# Altium schematic symbol library kmilo17pet-LT_ChargePump.SchLib: 599 symbols (part 6 of 29)
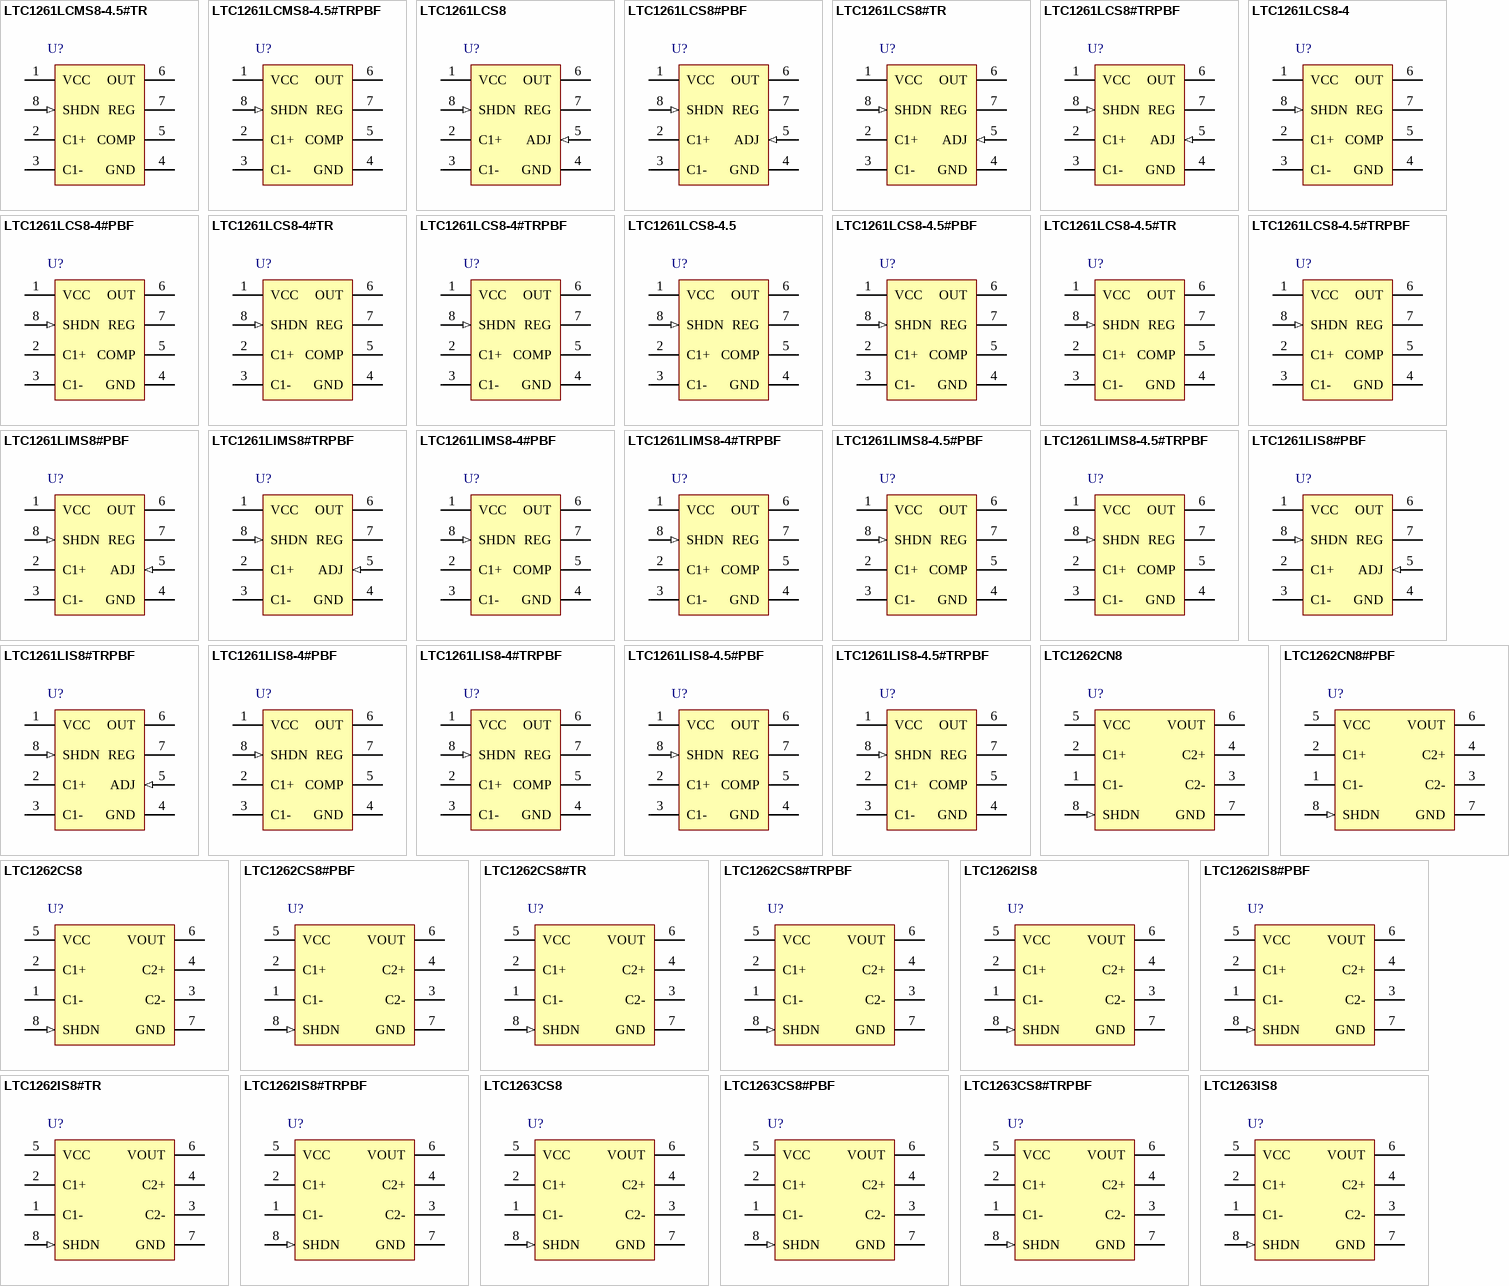
[diagram p21: symbols LTC1261LCMS8-4.5#TR to LTC1263IS8]

## LTC1261LIMS8-4#PBF
designator U?
Switched Capacitor Regulated Voltage Inverter, 4.35 to 5.25 V Vin, -4 V Vout, 8-pin SOP (MS8-8), -40 to 85 degC, Pb-Free; Manufacturer: Linear Technology; PartNumber: LTC1261LIMS8-4#PBF; Frequency(kHz): 650; Ishutdown(uA): 5; Isupply(mA): 0.65; Max Iout(mA): 20; Vin Max(V): 5.25; Vin Min(V): 4.35; Voutput: -4 V; DatasheetVersion: Rev. A; PackageVersion: Rev. G, 03/2012; PackageReference: MS8-8; PackageDescription: 8-Pin Plastic MSOP, Body 3 x 3 mm, Pitch 0.65 mm; Supplier 1: Digi-Key; Supplier Part Number 1: LTC1261LIMS8-4#PBF-ND; Supplier 2: Newark; Supplier Part Number 2: 45W8455; RoHS: TRUE; Mounting Technology: Surface Mount; ComponentLink1Description: Manufacturer URL; ComponentLink1URL: http://www.linear.com/; ComponentLink2Description: Datasheet; ComponentLink2URL: http://cds.linear.com/docs/en/datasheet/1261lfa.pdf; ComponentLink3Description: Package Specification; ComponentLink3URL: http://cds.linear.com/docs/en/packaging/05081660_G_MS8.pdf
footprint LT-MS8-8_N (SOP, 8-Leads, Body 3.1x3.1mm, Pitch 0.65mm, IPC Medium Density)
footprint LT-MS8-8_L (SOP, 8-Leads, Body 3.1x3.1mm, Pitch 0.65mm, IPC High Density)
footprint LT-MS8-8_M (SOP, 8-Leads, Body 3.1x3.1mm, Pitch 0.65mm, IPC Low Density)
pins: 1 VCC (power), 2 C1+ "C1 Positive Input. Connect a 0.1uF capacitor between C1+ and C1-.", 3 C1- "C1 Negative Input. Connect a 0.1uF capacitor from C1+ to C1-.", 4 GND (power) "Ground. Connect to a low impedance ground. A ground plane will help to minimize regulation errors.", 5 COMP "Output Adjust/Compensation Pin. For adjustable parts this pin is used to set the output voltage. The output voltage should be divided down with a resistor divider and feedback to this pin to set the regulated output voltage. (See Datasheet)", 6 OUT (power), 7 REG (oc) "This is an open drain output that pulls low when the output voltage is within 5% of the set value. It will sink 8mA to ground with a 5V supply. The external circuitry must provide a pull-up or REG will not swing high. The (See Datasheet)", 8 SHDN (in)

## LTC1261LIMS8-4#TRPBF
designator U?
Switched Capacitor Regulated Voltage Inverter, 4.35 to 5.25 V Vin, -4 V Vout, 8-pin SOP (MS8-8), -40 to 85 degC, Pb-Free, Tape and Reel; Manufacturer: Linear Technology; PartNumber: LTC1261LIMS8-4#TRPBF; Frequency(kHz): 650; Ishutdown(uA): 5; Isupply(mA): 0.65; Max Iout(mA): 20; Vin Max(V): 5.25; Vin Min(V): 4.35; Voutput: -4 V; DatasheetVersion: Rev. A; PackageVersion: Rev. G, 03/2012; PackageReference: MS8-8; PackageDescription: 8-Pin Plastic MSOP, Body 3 x 3 mm, Pitch 0.65 mm; Supplier 1: Digi-Key; Supplier Part Number 1: LTC1261LIMS8-4#TRPBF-ND; Supplier 2: Newark; Supplier Part Number 2: 45W8456; Packing: Tape and Reel; RoHS: TRUE; Mounting Technology: Surface Mount; ComponentLink1Description: Manufacturer URL; ComponentLink1URL: http://www.linear.com/; ComponentLink2Description: Datasheet; ComponentLink2URL: http://cds.linear.com/docs/en/datasheet/1261lfa.pdf; ComponentLink3Description: Package Specification; ComponentLink3URL: http://cds.linear.com/docs/en/packaging/05081660_G_MS8.pdf
footprint LT-MS8-8_N (SOP, 8-Leads, Body 3.1x3.1mm, Pitch 0.65mm, IPC Medium Density)
footprint LT-MS8-8_L (SOP, 8-Leads, Body 3.1x3.1mm, Pitch 0.65mm, IPC High Density)
footprint LT-MS8-8_M (SOP, 8-Leads, Body 3.1x3.1mm, Pitch 0.65mm, IPC Low Density)
pins: 1 VCC (power), 2 C1+ "C1 Positive Input. Connect a 0.1uF capacitor between C1+ and C1-.", 3 C1- "C1 Negative Input. Connect a 0.1uF capacitor from C1+ to C1-.", 4 GND (power) "Ground. Connect to a low impedance ground. A ground plane will help to minimize regulation errors.", 5 COMP "Output Adjust/Compensation Pin. For adjustable parts this pin is used to set the output voltage. The output voltage should be divided down with a resistor divider and feedback to this pin to set the regulated output voltage. (See Datasheet)", 6 OUT (power), 7 REG (oc) "This is an open drain output that pulls low when the output voltage is within 5% of the set value. It will sink 8mA to ground with a 5V supply. The external circuitry must provide a pull-up or REG will not swing high. The (See Datasheet)", 8 SHDN (in)

## LTC1261LIMS8-4.5#PBF
designator U?
Switched Capacitor Regulated Voltage Inverter, 4.75 to 5.25 V Vin, -4.5 V Vout, 8-pin SOP (MS8-8), -40 to 85 degC, Pb-Free; Manufacturer: Linear Technology; PartNumber: LTC1261LIMS8-4.5#PBF; Frequency(kHz): 650; Ishutdown(uA): 5; Isupply(mA): 0.65; Max Iout(mA): 20; Vin Max(V): 5.25; Vin Min(V): 4.75; Voutput: -4.5 V; DatasheetVersion: Rev. A; PackageVersion: Rev. G, 03/2012; PackageReference: MS8-8; PackageDescription: 8-Pin Plastic MSOP, Body 3 x 3 mm, Pitch 0.65 mm; Supplier 1: Digi-Key; Supplier Part Number 1: LTC1261LIMS8-4.5#PBF-ND; Supplier 2: Newark; Supplier Part Number 2: 45W8453; RoHS: TRUE; Mounting Technology: Surface Mount; ComponentLink1Description: Manufacturer URL; ComponentLink1URL: http://www.linear.com/; ComponentLink2Description: Datasheet; ComponentLink2URL: http://cds.linear.com/docs/en/datasheet/1261lfa.pdf; ComponentLink3Description: Package Specification; ComponentLink3URL: http://cds.linear.com/docs/en/packaging/05081660_G_MS8.pdf
footprint LT-MS8-8_N (SOP, 8-Leads, Body 3.1x3.1mm, Pitch 0.65mm, IPC Medium Density)
footprint LT-MS8-8_L (SOP, 8-Leads, Body 3.1x3.1mm, Pitch 0.65mm, IPC High Density)
footprint LT-MS8-8_M (SOP, 8-Leads, Body 3.1x3.1mm, Pitch 0.65mm, IPC Low Density)
pins: 1 VCC (power), 2 C1+ "C1 Positive Input. Connect a 0.1uF capacitor between C1+ and C1-.", 3 C1- "C1 Negative Input. Connect a 0.1uF capacitor from C1+ to C1-.", 4 GND (power) "Ground. Connect to a low impedance ground. A ground plane will help to minimize regulation errors.", 5 COMP "Output Adjust/Compensation Pin. For adjustable parts this pin is used to set the output voltage. The output voltage should be divided down with a resistor divider and feedback to this pin to set the regulated output voltage. (See Datasheet)", 6 OUT (power), 7 REG (oc) "This is an open drain output that pulls low when the output voltage is within 5% of the set value. It will sink 8mA to ground with a 5V supply. The external circuitry must provide a pull-up or REG will not swing high. The (See Datasheet)", 8 SHDN (in)

## LTC1261LIMS8-4.5#TRPBF
designator U?
Switched Capacitor Regulated Voltage Inverter, 4.75 to 5.25 V Vin, -4.5 V Vout, 8-pin SOP (MS8-8), -40 to 85 degC, Pb-Free, Tape and Reel; Manufacturer: Linear Technology; PartNumber: LTC1261LIMS8-4.5#TRPBF; Frequency(kHz): 650; Ishutdown(uA): 5; Isupply(mA): 0.65; Max Iout(mA): 20; Vin Max(V): 5.25; Vin Min(V): 4.75; Voutput: -4.5 V; DatasheetVersion: Rev. A; PackageVersion: Rev. G, 03/2012; PackageReference: MS8-8; PackageDescription: 8-Pin Plastic MSOP, Body 3 x 3 mm, Pitch 0.65 mm; Supplier 1: Digi-Key; Supplier Part Number 1: LTC1261LIMS8-4.5#TRPBF-ND; Supplier 2: Newark; Supplier Part Number 2: 45W8454; Packing: Tape and Reel; RoHS: TRUE; Mounting Technology: Surface Mount; ComponentLink1Description: Manufacturer URL; ComponentLink1URL: http://www.linear.com/; ComponentLink2Description: Datasheet; ComponentLink2URL: http://cds.linear.com/docs/en/datasheet/1261lfa.pdf; ComponentLink3Description: Package Specification; ComponentLink3URL: http://cds.linear.com/docs/en/packaging/05081660_G_MS8.pdf
footprint LT-MS8-8_N (SOP, 8-Leads, Body 3.1x3.1mm, Pitch 0.65mm, IPC Medium Density)
footprint LT-MS8-8_L (SOP, 8-Leads, Body 3.1x3.1mm, Pitch 0.65mm, IPC High Density)
footprint LT-MS8-8_M (SOP, 8-Leads, Body 3.1x3.1mm, Pitch 0.65mm, IPC Low Density)
pins: 1 VCC (power), 2 C1+ "C1 Positive Input. Connect a 0.1uF capacitor between C1+ and C1-.", 3 C1- "C1 Negative Input. Connect a 0.1uF capacitor from C1+ to C1-.", 4 GND (power) "Ground. Connect to a low impedance ground. A ground plane will help to minimize regulation errors.", 5 COMP "Output Adjust/Compensation Pin. For adjustable parts this pin is used to set the output voltage. The output voltage should be divided down with a resistor divider and feedback to this pin to set the regulated output voltage. (See Datasheet)", 6 OUT (power), 7 REG (oc) "This is an open drain output that pulls low when the output voltage is within 5% of the set value. It will sink 8mA to ground with a 5V supply. The external circuitry must provide a pull-up or REG will not swing high. The (See Datasheet)", 8 SHDN (in)

## LTC1261LIS8#PBF
designator U?
Switched Capacitor Regulated Voltage Inverter, 2.7 to 5.25 V Vin, Adjustable Vout, 8-pin SOIC (S8-8), -40 to 85 degC, Pb-Free; Manufacturer: Linear Technology; PartNumber: LTC1261LIS8#PBF; Frequency(kHz): 650; Ishutdown(uA): 5; Isupply(mA): 0.65; Max Iout(mA): 20; Vin Max(V): 5.25; Vin Min(V): 2.7; Voutput: Adj; DatasheetVersion: Rev. A; PackageVersion: Rev. G, 03/2012; PackageReference: S8-8; PackageDescription: 8-Pin Plastic Small Outline (Narrow .150 Inch), Body 4.9 x 3.9 mm, Pitch 1.27 mm; Supplier 1: Digi-Key; Supplier Part Number 1: LTC1261LIS8#PBF-ND; Supplier 2: Farnell; Supplier Part Number 2: 2293098; Supplier 3: Newark; Supplier Part Number 3: 45W8463; RoHS: TRUE; Mounting Technology: Surface Mount; ComponentLink1Description: Manufacturer URL; ComponentLink1URL: http://www.linear.com/; ComponentLink2Description: Datasheet; ComponentLink2URL: http://cds.linear.com/docs/en/datasheet/1261lfa.pdf; ComponentLink3Description: Package Specification; ComponentLink3URL: http://cds.linear.com/docs/en/packaging/05081610_G_SO8.pdf
footprint LT-S8-8_N (SOIC, 8-Leads, Body 5x4mm, Pitch 1.27mm, IPC Medium Density)
footprint LT-S8-8_L (SOIC, 8-Leads, Body 5x4mm, Pitch 1.27mm, IPC High Density)
footprint LT-S8-8_M (SOIC, 8-Leads, Body 5x4mm, Pitch 1.27mm, IPC Low Density)
pins: 1 VCC (power) "Power Supply.", 2 C1+ "C1 Positive Input. Connect a 0.1uF capacitor between C1+ and C1-.", 3 C1- "C1 Negative Input. Connect a 0.1uF capacitor from C1+ to C1-.", 4 GND (power) "Ground. Connect to a low impedance ground. A ground plane will help to minimize regulation errors.", 5 ADJ (in), 6 OUT (power), 7 REG (oc) "This is an open-drain output that pulls low when the output voltage is within 5% of the set value.", 8 SHDN (in) "Shutdown."

## LTC1261LIS8#TRPBF
designator U?
Switched Capacitor Regulated Voltage Inverter, 2.7 to 5.25 V Vin, Adjustable Vout, 8-pin SOIC (S8-8), -40 to 85 degC, Pb-Free, Tape and Reel; Manufacturer: Linear Technology; PartNumber: LTC1261LIS8#TRPBF; Frequency(kHz): 650; Ishutdown(uA): 5; Isupply(mA): 0.65; Max Iout(mA): 20; Vin Max(V): 5.25; Vin Min(V): 2.7; Voutput: Adj; DatasheetVersion: Rev. A; PackageVersion: Rev. G, 03/2012; PackageReference: S8-8; PackageDescription: 8-Pin Plastic Small Outline (Narrow .150 Inch), Body 4.9 x 3.9 mm, Pitch 1.27 mm; Supplier 1: Digi-Key; Supplier Part Number 1: LTC1261LIS8#TRPBF-ND; Supplier 2: Newark; Supplier Part Number 2: 45W8464; Packing: Tape and Reel; RoHS: TRUE; Mounting Technology: Surface Mount; ComponentLink1Description: Manufacturer URL; ComponentLink1URL: http://www.linear.com/; ComponentLink2Description: Datasheet; ComponentLink2URL: http://cds.linear.com/docs/en/datasheet/1261lfa.pdf; ComponentLink3Description: Package Specification; ComponentLink3URL: http://cds.linear.com/docs/en/packaging/05081610_G_SO8.pdf
footprint LT-S8-8_N (SOIC, 8-Leads, Body 5x4mm, Pitch 1.27mm, IPC Medium Density)
footprint LT-S8-8_L (SOIC, 8-Leads, Body 5x4mm, Pitch 1.27mm, IPC High Density)
footprint LT-S8-8_M (SOIC, 8-Leads, Body 5x4mm, Pitch 1.27mm, IPC Low Density)
pins: 1 VCC (power) "Power Supply.", 2 C1+ "C1 Positive Input. Connect a 0.1uF capacitor between C1+ and C1-.", 3 C1- "C1 Negative Input. Connect a 0.1uF capacitor from C1+ to C1-.", 4 GND (power) "Ground. Connect to a low impedance ground. A ground plane will help to minimize regulation errors.", 5 ADJ (in), 6 OUT (power), 7 REG (oc) "This is an open-drain output that pulls low when the output voltage is within 5% of the set value.", 8 SHDN (in) "Shutdown."

## LTC1261LIS8-4#PBF
designator U?
Switched Capacitor Regulated Voltage Inverter, 4.35 to 5.25 V Vin, -4 V Vout, 8-pin SOIC (S8-8), -40 to 85 degC, Pb-Free; Manufacturer: Linear Technology; PartNumber: LTC1261LIS8-4#PBF; Frequency(kHz): 650; Ishutdown(uA): 5; Isupply(mA): 0.65; Max Iout(mA): 20; Vin Max(V): 5.25; Vin Min(V): 4.35; Voutput: -4 V; DatasheetVersion: Rev. A; PackageVersion: Rev. G, 03/2012; PackageReference: S8-8; PackageDescription: 8-Pin Plastic Small Outline (Narrow .150 Inch), Body 4.9 x 3.9 mm, Pitch 1.27 mm; Supplier 1: Digi-Key; Supplier Part Number 1: LTC1261LIS8-4#PBF-ND; Supplier 2: Newark; Supplier Part Number 2: 45W8461; RoHS: TRUE; Mounting Technology: Surface Mount; ComponentLink1Description: Manufacturer URL; ComponentLink1URL: http://www.linear.com/; ComponentLink2Description: Datasheet; ComponentLink2URL: http://cds.linear.com/docs/en/datasheet/1261lfa.pdf; ComponentLink3Description: Package Specification; ComponentLink3URL: http://cds.linear.com/docs/en/packaging/05081610_G_SO8.pdf
footprint LT-S8-8_N (SOIC, 8-Leads, Body 5x4mm, Pitch 1.27mm, IPC Medium Density)
footprint LT-S8-8_L (SOIC, 8-Leads, Body 5x4mm, Pitch 1.27mm, IPC High Density)
footprint LT-S8-8_M (SOIC, 8-Leads, Body 5x4mm, Pitch 1.27mm, IPC Low Density)
pins: 1 VCC (power), 2 C1+ "C1 Positive Input. Connect a 0.1uF capacitor between C1+ and C1-.", 3 C1- "C1 Negative Input. Connect a 0.1uF capacitor from C1+ to C1-.", 4 GND (power) "Ground. Connect to a low impedance ground. A ground plane will help to minimize regulation errors.", 5 COMP "Output Adjust/Compensation Pin. For adjustable parts this pin is used to set the output voltage. The output voltage should be divided down with a resistor divider and feedback to this pin to set the regulated output voltage. (See Datasheet)", 6 OUT (power), 7 REG (oc) "This is an open drain output that pulls low when the output voltage is within 5% of the set value. It will sink 8mA to ground with a 5V supply. The external circuitry must provide a pull-up or REG will not swing high. The (See Datasheet)", 8 SHDN (in)

## LTC1261LIS8-4#TRPBF
designator U?
Switched Capacitor Regulated Voltage Inverter, 4.35 to 5.25 V Vin, -4 V Vout, 8-pin SOIC (S8-8), -40 to 85 degC, Pb-Free, Tape and Reel; Manufacturer: Linear Technology; PartNumber: LTC1261LIS8-4#TRPBF; Frequency(kHz): 650; Ishutdown(uA): 5; Isupply(mA): 0.65; Max Iout(mA): 20; Vin Max(V): 5.25; Vin Min(V): 4.35; Voutput: -4 V; DatasheetVersion: Rev. A; PackageVersion: Rev. G, 03/2012; PackageReference: S8-8; PackageDescription: 8-Pin Plastic Small Outline (Narrow .150 Inch), Body 4.9 x 3.9 mm, Pitch 1.27 mm; Supplier 1: Digi-Key; Supplier Part Number 1: LTC1261LIS8-4#TRPBF-ND; Supplier 2: Newark; Supplier Part Number 2: 45W8462; Packing: Tape and Reel; RoHS: TRUE; Mounting Technology: Surface Mount; ComponentLink1Description: Manufacturer URL; ComponentLink1URL: http://www.linear.com/; ComponentLink2Description: Datasheet; ComponentLink2URL: http://cds.linear.com/docs/en/datasheet/1261lfa.pdf; ComponentLink3Description: Package Specification; ComponentLink3URL: http://cds.linear.com/docs/en/packaging/05081610_G_SO8.pdf
footprint LT-S8-8_N (SOIC, 8-Leads, Body 5x4mm, Pitch 1.27mm, IPC Medium Density)
footprint LT-S8-8_L (SOIC, 8-Leads, Body 5x4mm, Pitch 1.27mm, IPC High Density)
footprint LT-S8-8_M (SOIC, 8-Leads, Body 5x4mm, Pitch 1.27mm, IPC Low Density)
pins: 1 VCC (power), 2 C1+ "C1 Positive Input. Connect a 0.1uF capacitor between C1+ and C1-.", 3 C1- "C1 Negative Input. Connect a 0.1uF capacitor from C1+ to C1-.", 4 GND (power) "Ground. Connect to a low impedance ground. A ground plane will help to minimize regulation errors.", 5 COMP "Output Adjust/Compensation Pin. For adjustable parts this pin is used to set the output voltage. The output voltage should be divided down with a resistor divider and feedback to this pin to set the regulated output voltage. (See Datasheet)", 6 OUT (power), 7 REG (oc) "This is an open drain output that pulls low when the output voltage is within 5% of the set value. It will sink 8mA to ground with a 5V supply. The external circuitry must provide a pull-up or REG will not swing high. The (See Datasheet)", 8 SHDN (in)

## LTC1261LIS8-4.5#PBF
designator U?
Switched Capacitor Regulated Voltage Inverter, 4.75 to 5.25 V Vin, -4.5 V Vout, 8-pin SOIC (S8-8), -40 to 85 degC, Pb-Free; Manufacturer: Linear Technology; PartNumber: LTC1261LIS8-4.5#PBF; Frequency(kHz): 650; Ishutdown(uA): 5; Isupply(mA): 0.65; Max Iout(mA): 20; Vin Max(V): 5.25; Vin Min(V): 4.75; Voutput: -4.5 V; DatasheetVersion: Rev. A; PackageVersion: Rev. G, 03/2012; PackageReference: S8-8; PackageDescription: 8-Pin Plastic Small Outline (Narrow .150 Inch), Body 4.9 x 3.9 mm, Pitch 1.27 mm; Supplier 1: Digi-Key; Supplier Part Number 1: LTC1261LIS8-4.5#PBF-ND; Supplier 2: Newark; Supplier Part Number 2: 45W8459; RoHS: TRUE; Mounting Technology: Surface Mount; ComponentLink1Description: Manufacturer URL; ComponentLink1URL: http://www.linear.com/; ComponentLink2Description: Datasheet; ComponentLink2URL: http://cds.linear.com/docs/en/datasheet/1261lfa.pdf; ComponentLink3Description: Package Specification; ComponentLink3URL: http://cds.linear.com/docs/en/packaging/05081610_G_SO8.pdf
footprint LT-S8-8_N (SOIC, 8-Leads, Body 5x4mm, Pitch 1.27mm, IPC Medium Density)
footprint LT-S8-8_L (SOIC, 8-Leads, Body 5x4mm, Pitch 1.27mm, IPC High Density)
footprint LT-S8-8_M (SOIC, 8-Leads, Body 5x4mm, Pitch 1.27mm, IPC Low Density)
pins: 1 VCC (power), 2 C1+ "C1 Positive Input. Connect a 0.1uF capacitor between C1+ and C1-.", 3 C1- "C1 Negative Input. Connect a 0.1uF capacitor from C1+ to C1-.", 4 GND (power) "Ground. Connect to a low impedance ground. A ground plane will help to minimize regulation errors.", 5 COMP "Output Adjust/Compensation Pin. For adjustable parts this pin is used to set the output voltage. The output voltage should be divided down with a resistor divider and feedback to this pin to set the regulated output voltage. (See Datasheet)", 6 OUT (power), 7 REG (oc) "This is an open drain output that pulls low when the output voltage is within 5% of the set value. It will sink 8mA to ground with a 5V supply. The external circuitry must provide a pull-up or REG will not swing high. The (See Datasheet)", 8 SHDN (in)

## LTC1261LIS8-4.5#TRPBF
designator U?
Switched Capacitor Regulated Voltage Inverter, 4.75 to 5.25 V Vin, -4.5 V Vout, 8-pin SOIC (S8-8), -40 to 85 degC, Pb-Free, Tape and Reel; Manufacturer: Linear Technology; PartNumber: LTC1261LIS8-4.5#TRPBF; Frequency(kHz): 650; Ishutdown(uA): 5; Isupply(mA): 0.65; Max Iout(mA): 20; Vin Max(V): 5.25; Vin Min(V): 4.75; Voutput: -4.5 V; DatasheetVersion: Rev. A; PackageVersion: Rev. G, 03/2012; PackageReference: S8-8; PackageDescription: 8-Pin Plastic Small Outline (Narrow .150 Inch), Body 4.9 x 3.9 mm, Pitch 1.27 mm; Supplier 1: Digi-Key; Supplier Part Number 1: LTC1261LIS8-4.5#TRPBF-ND; Supplier 2: Newark; Supplier Part Number 2: 45W8460; Packing: Tape and Reel; RoHS: TRUE; Mounting Technology: Surface Mount; ComponentLink1Description: Manufacturer URL; ComponentLink1URL: http://www.linear.com/; ComponentLink2Description: Datasheet; ComponentLink2URL: http://cds.linear.com/docs/en/datasheet/1261lfa.pdf; ComponentLink3Description: Package Specification; ComponentLink3URL: http://cds.linear.com/docs/en/packaging/05081610_G_SO8.pdf
footprint LT-S8-8_N (SOIC, 8-Leads, Body 5x4mm, Pitch 1.27mm, IPC Medium Density)
footprint LT-S8-8_L (SOIC, 8-Leads, Body 5x4mm, Pitch 1.27mm, IPC High Density)
footprint LT-S8-8_M (SOIC, 8-Leads, Body 5x4mm, Pitch 1.27mm, IPC Low Density)
pins: 1 VCC (power), 2 C1+ "C1 Positive Input. Connect a 0.1uF capacitor between C1+ and C1-.", 3 C1- "C1 Negative Input. Connect a 0.1uF capacitor from C1+ to C1-.", 4 GND (power) "Ground. Connect to a low impedance ground. A ground plane will help to minimize regulation errors.", 5 COMP "Output Adjust/Compensation Pin. For adjustable parts this pin is used to set the output voltage. The output voltage should be divided down with a resistor divider and feedback to this pin to set the regulated output voltage. (See Datasheet)", 6 OUT (power), 7 REG (oc) "This is an open drain output that pulls low when the output voltage is within 5% of the set value. It will sink 8mA to ground with a 5V supply. The external circuitry must provide a pull-up or REG will not swing high. The (See Datasheet)", 8 SHDN (in)

## LTC1262CN8
designator U?
30 mA Flash Memory Programming Supply, 4.75 to 5.5 V Vin, 12 V Vout, 8-pin DIP (N8-8), 0 to 70 degC; Manufacturer: Linear Technology; PartNumber: LTC1262CN8; Frequency(kHz): 300; Ishutdown(uA): 0.5; Max Iout(mA): 30; Vin Max(V): 5.5; Vin Min(V): 4.75; Voutput: 12V; DatasheetVersion: Rev. A; PackageVersion: Rev. I, 07/2011; PackageReference: N8-8; PackageDescription: 8-Pin PDIP, Body 10.16 x 6.48 mm, Pitch 2.54 mm; Supplier 1: Digi-Key; Supplier Part Number 1: LTC1262CN8-ND; Isupply(mA): 0.5; RoHS: FALSE; Mounting Technology: Through Hole; ComponentLink1Description: Manufacturer URL; ComponentLink1URL: http://www.linear.com/; ComponentLink2Description: Datasheet; ComponentLink2URL: http://cds.linear.com/docs/en/datasheet/1262fa.pdf; ComponentLink3Description: Package Specification; ComponentLink3URL: http://www.linear.com/docs/en/packaging/05081510_I_N8.pdf
footprint LT-N8-8 (DIP, 8-Leads, Body 10.15x6.85mm, Pitch 2.54mm)
pins: 1 C1-, 2 C1+, 3 C2-, 4 C2+, 5 VCC (power), 6 VOUT (power), 7 GND (power) "Ground.", 8 SHDN (in)

## LTC1262CN8#PBF
designator U?
30 mA Flash Memory Programming Supply, 4.75 to 5.5 V Vin, 12 V Vout, 8-pin DIP (N8-8), 0 to 70 degC, Pb-Free; Manufacturer: Linear Technology; PartNumber: LTC1262CN8#PBF; Frequency(kHz): 300; Ishutdown(uA): 0.5; Max Iout(mA): 30; Vin Max(V): 5.5; Vin Min(V): 4.75; Voutput: 12V; DatasheetVersion: Rev. A; PackageVersion: Rev. I, 07/2011; PackageReference: N8-8; PackageDescription: 8-Pin PDIP, Body 10.16 x 6.48 mm, Pitch 2.54 mm; Supplier 1: Digi-Key; Supplier Part Number 1: LTC1262CN8#PBF-ND; Isupply(mA): 0.5; RoHS: TRUE; Mounting Technology: Through Hole; ComponentLink1Description: Manufacturer URL; ComponentLink1URL: http://www.linear.com/; ComponentLink2Description: Datasheet; ComponentLink2URL: http://cds.linear.com/docs/en/datasheet/1262fa.pdf; ComponentLink3Description: Package Specification; ComponentLink3URL: http://www.linear.com/docs/en/packaging/05081510_I_N8.pdf
footprint LT-N8-8 (DIP, 8-Leads, Body 10.15x6.85mm, Pitch 2.54mm)
pins: 1 C1-, 2 C1+, 3 C2-, 4 C2+, 5 VCC (power), 6 VOUT (power), 7 GND (power) "Ground.", 8 SHDN (in)

## LTC1262CS8
designator U?
30 mA Flash Memory Programming Supply, 4.75 to 5.5 V Vin, 12 V Vout, 8-pin SOIC (S8-8), 0 to 70 degC; Manufacturer: Linear Technology; PartNumber: LTC1262CS8; Frequency(kHz): 300; Ishutdown(uA): 0.5; Max Iout(mA): 30; Vin Max(V): 5.5; Vin Min(V): 4.75; Voutput: 12V; DatasheetVersion: Rev. A; PackageVersion: Rev. G, 03/2012; PackageReference: S8-8; PackageDescription: 8-Pin Plastic Small Outline (Narrow .150 Inch), Body 4.9 x 3.9 mm, Pitch 1.27 mm; Supplier 1: Digi-Key; Supplier Part Number 1: LTC1262CS8-ND; Supplier 2: Newark; Supplier Part Number 2: 55M9814; Isupply(mA): 0.5; RoHS: FALSE; Mounting Technology: Surface Mount; ComponentLink1Description: Manufacturer URL; ComponentLink1URL: http://www.linear.com/; ComponentLink2Description: Datasheet; ComponentLink2URL: http://cds.linear.com/docs/en/datasheet/1262fa.pdf; ComponentLink3Description: Package Specification; ComponentLink3URL: http://cds.linear.com/docs/en/packaging/05081610_G_SO8.pdf
footprint LT-S8-8_N (SOIC, 8-Leads, Body 5x4mm, Pitch 1.27mm, IPC Medium Density)
footprint LT-S8-8_L (SOIC, 8-Leads, Body 5x4mm, Pitch 1.27mm, IPC High Density)
footprint LT-S8-8_M (SOIC, 8-Leads, Body 5x4mm, Pitch 1.27mm, IPC Low Density)
pins: 1 C1-, 2 C1+, 3 C2-, 4 C2+, 5 VCC (power), 6 VOUT (power), 7 GND (power) "Ground.", 8 SHDN (in)

## LTC1262CS8#PBF
designator U?
30 mA Flash Memory Programming Supply, 4.75 to 5.5 V Vin, 12 V Vout, 8-pin SOIC (S8-8), 0 to 70 degC, Pb-Free; Manufacturer: Linear Technology; PartNumber: LTC1262CS8#PBF; Frequency(kHz): 300; Ishutdown(uA): 0.5; Max Iout(mA): 30; Vin Max(V): 5.5; Vin Min(V): 4.75; Voutput: 12V; DatasheetVersion: Rev. A; PackageVersion: Rev. G, 03/2012; PackageReference: S8-8; PackageDescription: 8-Pin Plastic Small Outline (Narrow .150 Inch), Body 4.9 x 3.9 mm, Pitch 1.27 mm; Supplier 1: Digi-Key; Supplier Part Number 1: LTC1262CS8#PBF-ND; Supplier 2: Newark; Supplier Part Number 2: 55M9815; Isupply(mA): 0.5; RoHS: TRUE; Mounting Technology: Surface Mount; ComponentLink1Description: Manufacturer URL; ComponentLink1URL: http://www.linear.com/; ComponentLink2Description: Datasheet; ComponentLink2URL: http://cds.linear.com/docs/en/datasheet/1262fa.pdf; ComponentLink3Description: Package Specification; ComponentLink3URL: http://cds.linear.com/docs/en/packaging/05081610_G_SO8.pdf
footprint LT-S8-8_N (SOIC, 8-Leads, Body 5x4mm, Pitch 1.27mm, IPC Medium Density)
footprint LT-S8-8_L (SOIC, 8-Leads, Body 5x4mm, Pitch 1.27mm, IPC High Density)
footprint LT-S8-8_M (SOIC, 8-Leads, Body 5x4mm, Pitch 1.27mm, IPC Low Density)
pins: 1 C1-, 2 C1+, 3 C2-, 4 C2+, 5 VCC (power), 6 VOUT (power), 7 GND (power) "Ground.", 8 SHDN (in)

## LTC1262CS8#TR
designator U?
30 mA Flash Memory Programming Supply, 4.75 to 5.5 V Vin, 12 V Vout, 8-pin SOIC (S8-8), 0 to 70 degC, Tape and Reel; Manufacturer: Linear Technology; PartNumber: LTC1262CS8#TR; Frequency(kHz): 300; Ishutdown(uA): 0.5; Max Iout(mA): 30; Vin Max(V): 5.5; Vin Min(V): 4.75; Voutput: 12V; DatasheetVersion: Rev. A; PackageVersion: Rev. G, 03/2012; PackageReference: S8-8; PackageDescription: 8-Pin Plastic Small Outline (Narrow .150 Inch), Body 4.9 x 3.9 mm, Pitch 1.27 mm; Supplier 1: Digi-Key; Supplier Part Number 1: LTC1262CS8#TR-ND; Isupply(mA): 0.5; Packing: Tape and Reel; RoHS: FALSE; Mounting Technology: Surface Mount; ComponentLink1Description: Manufacturer URL; ComponentLink1URL: http://www.linear.com/; ComponentLink2Description: Datasheet; ComponentLink2URL: http://cds.linear.com/docs/en/datasheet/1262fa.pdf; ComponentLink3Description: Package Specification; ComponentLink3URL: http://cds.linear.com/docs/en/packaging/05081610_G_SO8.pdf
footprint LT-S8-8_N (SOIC, 8-Leads, Body 5x4mm, Pitch 1.27mm, IPC Medium Density)
footprint LT-S8-8_L (SOIC, 8-Leads, Body 5x4mm, Pitch 1.27mm, IPC High Density)
footprint LT-S8-8_M (SOIC, 8-Leads, Body 5x4mm, Pitch 1.27mm, IPC Low Density)
pins: 1 C1-, 2 C1+, 3 C2-, 4 C2+, 5 VCC (power), 6 VOUT (power), 7 GND (power) "Ground.", 8 SHDN (in)

## LTC1262CS8#TRPBF
designator U?
30 mA Flash Memory Programming Supply, 4.75 to 5.5 V Vin, 12 V Vout, 8-pin SOIC (S8-8), 0 to 70 degC, Pb-Free, Tape and Reel; Manufacturer: Linear Technology; PartNumber: LTC1262CS8#TRPBF; Frequency(kHz): 300; Ishutdown(uA): 0.5; Max Iout(mA): 30; Vin Max(V): 5.5; Vin Min(V): 4.75; Voutput: 12V; DatasheetVersion: Rev. A; PackageVersion: Rev. G, 03/2012; PackageReference: S8-8; PackageDescription: 8-Pin Plastic Small Outline (Narrow .150 Inch), Body 4.9 x 3.9 mm, Pitch 1.27 mm; Supplier 1: Digi-Key; Supplier Part Number 1: LTC1262CS8#TRPBF-ND; Supplier 2: Newark; Supplier Part Number 2: 55M9817; Isupply(mA): 0.5; Packing: Tape and Reel; RoHS: TRUE; Mounting Technology: Surface Mount; ComponentLink1Description: Manufacturer URL; ComponentLink1URL: http://www.linear.com/; ComponentLink2Description: Datasheet; ComponentLink2URL: http://cds.linear.com/docs/en/datasheet/1262fa.pdf; ComponentLink3Description: Package Specification; ComponentLink3URL: http://cds.linear.com/docs/en/packaging/05081610_G_SO8.pdf
footprint LT-S8-8_N (SOIC, 8-Leads, Body 5x4mm, Pitch 1.27mm, IPC Medium Density)
footprint LT-S8-8_L (SOIC, 8-Leads, Body 5x4mm, Pitch 1.27mm, IPC High Density)
footprint LT-S8-8_M (SOIC, 8-Leads, Body 5x4mm, Pitch 1.27mm, IPC Low Density)
pins: 1 C1-, 2 C1+, 3 C2-, 4 C2+, 5 VCC (power), 6 VOUT (power), 7 GND (power) "Ground.", 8 SHDN (in)

## LTC1262IS8
designator U?
30 mA Flash Memory Programming Supply, 4.75 to 5.5 V Vin, 12 V Vout, 8-pin SOIC (S8-8), -40 to 85 degC; Manufacturer: Linear Technology; PartNumber: LTC1262IS8; Frequency(kHz): 300; Ishutdown(uA): 0.5; Max Iout(mA): 30; Vin Max(V): 5.5; Vin Min(V): 4.75; Voutput: 12V; DatasheetVersion: Rev. A; PackageVersion: Rev. G, 03/2012; PackageReference: S8-8; PackageDescription: 8-Pin Plastic Small Outline (Narrow .150 Inch), Body 4.9 x 3.9 mm, Pitch 1.27 mm; Supplier 1: Digi-Key; Supplier Part Number 1: LTC1262IS8-ND; Isupply(mA): 0.5; RoHS: FALSE; Mounting Technology: Surface Mount; ComponentLink1Description: Manufacturer URL; ComponentLink1URL: http://www.linear.com/; ComponentLink2Description: Datasheet; ComponentLink2URL: http://cds.linear.com/docs/en/datasheet/1262fa.pdf; ComponentLink3Description: Package Specification; ComponentLink3URL: http://cds.linear.com/docs/en/packaging/05081610_G_SO8.pdf
footprint LT-S8-8_N (SOIC, 8-Leads, Body 5x4mm, Pitch 1.27mm, IPC Medium Density)
footprint LT-S8-8_L (SOIC, 8-Leads, Body 5x4mm, Pitch 1.27mm, IPC High Density)
footprint LT-S8-8_M (SOIC, 8-Leads, Body 5x4mm, Pitch 1.27mm, IPC Low Density)
pins: 1 C1-, 2 C1+, 3 C2-, 4 C2+, 5 VCC (power), 6 VOUT (power), 7 GND (power) "Ground.", 8 SHDN (in)

## LTC1262IS8#PBF
designator U?
30 mA Flash Memory Programming Supply, 4.75 to 5.5 V Vin, 12 V Vout, 8-pin SOIC (S8-8), -40 to 85 degC, Pb-Free; Manufacturer: Linear Technology; PartNumber: LTC1262IS8#PBF; Frequency(kHz): 300; Ishutdown(uA): 0.5; Max Iout(mA): 30; Vin Max(V): 5.5; Vin Min(V): 4.75; Voutput: 12V; DatasheetVersion: Rev. A; PackageVersion: Rev. G, 03/2012; PackageReference: S8-8; PackageDescription: 8-Pin Plastic Small Outline (Narrow .150 Inch), Body 4.9 x 3.9 mm, Pitch 1.27 mm; Supplier 1: Digi-Key; Supplier Part Number 1: LTC1262IS8#PBF-ND; Supplier 2: Farnell; Supplier Part Number 2: 2294979; Supplier 3: Newark; Supplier Part Number 3: 55M9819; Isupply(mA): 0.5; RoHS: TRUE; Mounting Technology: Surface Mount; ComponentLink1Description: Manufacturer URL; ComponentLink1URL: http://www.linear.com/; ComponentLink2Description: Datasheet; ComponentLink2URL: http://cds.linear.com/docs/en/datasheet/1262fa.pdf; ComponentLink3Description: Package Specification; ComponentLink3URL: http://cds.linear.com/docs/en/packaging/05081610_G_SO8.pdf
footprint LT-S8-8_N (SOIC, 8-Leads, Body 5x4mm, Pitch 1.27mm, IPC Medium Density)
footprint LT-S8-8_L (SOIC, 8-Leads, Body 5x4mm, Pitch 1.27mm, IPC High Density)
footprint LT-S8-8_M (SOIC, 8-Leads, Body 5x4mm, Pitch 1.27mm, IPC Low Density)
pins: 1 C1-, 2 C1+, 3 C2-, 4 C2+, 5 VCC (power), 6 VOUT (power), 7 GND (power) "Ground.", 8 SHDN (in)

## LTC1262IS8#TR
designator U?
30 mA Flash Memory Programming Supply, 4.75 to 5.5 V Vin, 12 V Vout, 8-pin SOIC (S8-8), -40 to 85 degC, Tape and Reel; Manufacturer: Linear Technology; PartNumber: LTC1262IS8#TR; Frequency(kHz): 300; Ishutdown(uA): 0.5; Max Iout(mA): 30; Vin Max(V): 5.5; Vin Min(V): 4.75; Voutput: 12V; DatasheetVersion: Rev. A; PackageVersion: Rev. G, 03/2012; PackageReference: S8-8; PackageDescription: 8-Pin Plastic Small Outline (Narrow .150 Inch), Body 4.9 x 3.9 mm, Pitch 1.27 mm; Supplier 1: Digi-Key; Supplier Part Number 1: LTC1262IS8#TR-ND; Isupply(mA): 0.5; Packing: Tape and Reel; RoHS: FALSE; Mounting Technology: Surface Mount; ComponentLink1Description: Manufacturer URL; ComponentLink1URL: http://www.linear.com/; ComponentLink2Description: Datasheet; ComponentLink2URL: http://cds.linear.com/docs/en/datasheet/1262fa.pdf; ComponentLink3Description: Package Specification; ComponentLink3URL: http://cds.linear.com/docs/en/packaging/05081610_G_SO8.pdf
footprint LT-S8-8_N (SOIC, 8-Leads, Body 5x4mm, Pitch 1.27mm, IPC Medium Density)
footprint LT-S8-8_L (SOIC, 8-Leads, Body 5x4mm, Pitch 1.27mm, IPC High Density)
footprint LT-S8-8_M (SOIC, 8-Leads, Body 5x4mm, Pitch 1.27mm, IPC Low Density)
pins: 1 C1-, 2 C1+, 3 C2-, 4 C2+, 5 VCC (power), 6 VOUT (power), 7 GND (power) "Ground.", 8 SHDN (in)

## LTC1262IS8#TRPBF
designator U?
30 mA Flash Memory Programming Supply, 4.75 to 5.5 V Vin, 12 V Vout, 8-pin SOIC (S8-8), -40 to 85 degC, Pb-Free, Tape and Reel; Manufacturer: Linear Technology; PartNumber: LTC1262IS8#TRPBF; Frequency(kHz): 300; Ishutdown(uA): 0.5; Max Iout(mA): 30; Vin Max(V): 5.5; Vin Min(V): 4.75; Voutput: 12V; DatasheetVersion: Rev. A; PackageVersion: Rev. G, 03/2012; PackageReference: S8-8; PackageDescription: 8-Pin Plastic Small Outline (Narrow .150 Inch), Body 4.9 x 3.9 mm, Pitch 1.27 mm; Supplier 1: Digi-Key; Supplier Part Number 1: LTC1262IS8#TRPBF-ND; Isupply(mA): 0.5; Packing: Tape and Reel; RoHS: TRUE; Mounting Technology: Surface Mount; ComponentLink1Description: Manufacturer URL; ComponentLink1URL: http://www.linear.com/; ComponentLink2Description: Datasheet; ComponentLink2URL: http://cds.linear.com/docs/en/datasheet/1262fa.pdf; ComponentLink3Description: Package Specification; ComponentLink3URL: http://cds.linear.com/docs/en/packaging/05081610_G_SO8.pdf
footprint LT-S8-8_N (SOIC, 8-Leads, Body 5x4mm, Pitch 1.27mm, IPC Medium Density)
footprint LT-S8-8_L (SOIC, 8-Leads, Body 5x4mm, Pitch 1.27mm, IPC High Density)
footprint LT-S8-8_M (SOIC, 8-Leads, Body 5x4mm, Pitch 1.27mm, IPC Low Density)
pins: 1 C1-, 2 C1+, 3 C2-, 4 C2+, 5 VCC (power), 6 VOUT (power), 7 GND (power) "Ground.", 8 SHDN (in)

## LTC1263CS8
designator U?
60 mA Flash Memory Programming Supply, 4.75 to 5.5 V Vin, 12 V Vout, 8-pin SOIC (S8-8), 0 to 70 degC; Manufacturer: Linear Technology; PartNumber: LTC1263CS8; Frequency(kHz): 300; Ishutdown(uA): 0.5; Isupply(mA): 0.3; Max Iout(mA): 60; Vin Max(V): 5.5; Vin Min(V): 4.75; Voutput: 12V; PackageVersion: Rev. G, 03/2012; PackageReference: S8-8; PackageDescription: 8-Pin Plastic Small Outline (Narrow .150 Inch), Body 4.9 x 3.9 mm, Pitch 1.27 mm; Supplier 1: Digi-Key; Supplier Part Number 1: LTC1263CS8-ND; RoHS: FALSE; Mounting Technology: Surface Mount; ComponentLink1Description: Manufacturer URL; ComponentLink1URL: http://www.linear.com/; ComponentLink2Description: Datasheet; ComponentLink2URL: http://cds.linear.com/docs/en/datasheet/1263f.pdf; ComponentLink3Description: Package Specification; ComponentLink3URL: http://cds.linear.com/docs/en/packaging/05081610_G_SO8.pdf
footprint LT-S8-8_N (SOIC, 8-Leads, Body 5x4mm, Pitch 1.27mm, IPC Medium Density)
footprint LT-S8-8_L (SOIC, 8-Leads, Body 5x4mm, Pitch 1.27mm, IPC High Density)
footprint LT-S8-8_M (SOIC, 8-Leads, Body 5x4mm, Pitch 1.27mm, IPC Low Density)
pins: 1 C1-, 2 C1+, 3 C2-, 4 C2+, 5 VCC (power), 6 VOUT (power), 7 GND (power) "Ground.", 8 SHDN (in)

## LTC1263CS8#PBF
designator U?
60 mA Flash Memory Programming Supply, 4.75 to 5.5 V Vin, 12 V Vout, 8-pin SOIC (S8-8), 0 to 70 degC, Pb-Free; Manufacturer: Linear Technology; PartNumber: LTC1263CS8#PBF; Frequency(kHz): 300; Ishutdown(uA): 0.5; Isupply(mA): 0.3; Max Iout(mA): 60; Vin Max(V): 5.5; Vin Min(V): 4.75; Voutput: 12V; PackageVersion: Rev. G, 03/2012; PackageReference: S8-8; PackageDescription: 8-Pin Plastic Small Outline (Narrow .150 Inch), Body 4.9 x 3.9 mm, Pitch 1.27 mm; Supplier 1: Digi-Key; Supplier Part Number 1: LTC1263CS8#PBF-ND; Supplier 2: Farnell; Supplier Part Number 2: 1273849; Supplier 3: Newark; Supplier Part Number 3: 55M9823; RoHS: TRUE; Mounting Technology: Surface Mount; ComponentLink1Description: Manufacturer URL; ComponentLink1URL: http://www.linear.com/; ComponentLink2Description: Datasheet; ComponentLink2URL: http://cds.linear.com/docs/en/datasheet/1263f.pdf; ComponentLink3Description: Package Specification; ComponentLink3URL: http://cds.linear.com/docs/en/packaging/05081610_G_SO8.pdf
footprint LT-S8-8_N (SOIC, 8-Leads, Body 5x4mm, Pitch 1.27mm, IPC Medium Density)
footprint LT-S8-8_L (SOIC, 8-Leads, Body 5x4mm, Pitch 1.27mm, IPC High Density)
footprint LT-S8-8_M (SOIC, 8-Leads, Body 5x4mm, Pitch 1.27mm, IPC Low Density)
pins: 1 C1-, 2 C1+, 3 C2-, 4 C2+, 5 VCC (power), 6 VOUT (power), 7 GND (power) "Ground.", 8 SHDN (in)

## LTC1263CS8#TRPBF
designator U?
60 mA Flash Memory Programming Supply, 4.75 to 5.5 V Vin, 12 V Vout, 8-pin SOIC (S8-8), 0 to 70 degC, Pb-Free, Tape and Reel; Manufacturer: Linear Technology; PartNumber: LTC1263CS8#TRPBF; Frequency(kHz): 300; Ishutdown(uA): 0.5; Isupply(mA): 0.3; Max Iout(mA): 60; Vin Max(V): 5.5; Vin Min(V): 4.75; Voutput: 12V; PackageVersion: Rev. G, 03/2012; PackageReference: S8-8; PackageDescription: 8-Pin Plastic Small Outline (Narrow .150 Inch), Body 4.9 x 3.9 mm, Pitch 1.27 mm; Supplier 1: Digi-Key; Supplier Part Number 1: LTC1263CS8#TRPBF-ND; Supplier 2: Newark; Supplier Part Number 2: 55M9824; Packing: Tape and Reel; RoHS: TRUE; Mounting Technology: Surface Mount; ComponentLink1Description: Manufacturer URL; ComponentLink1URL: http://www.linear.com/; ComponentLink2Description: Datasheet; ComponentLink2URL: http://cds.linear.com/docs/en/datasheet/1263f.pdf; ComponentLink3Description: Package Specification; ComponentLink3URL: http://cds.linear.com/docs/en/packaging/05081610_G_SO8.pdf
footprint LT-S8-8_N (SOIC, 8-Leads, Body 5x4mm, Pitch 1.27mm, IPC Medium Density)
footprint LT-S8-8_L (SOIC, 8-Leads, Body 5x4mm, Pitch 1.27mm, IPC High Density)
footprint LT-S8-8_M (SOIC, 8-Leads, Body 5x4mm, Pitch 1.27mm, IPC Low Density)
pins: 1 C1-, 2 C1+, 3 C2-, 4 C2+, 5 VCC (power), 6 VOUT (power), 7 GND (power) "Ground.", 8 SHDN (in)

## LTC1263IS8
designator U?
60 mA Flash Memory Programming Supply, 4.75 to 5.5 V Vin, 12 V Vout, 8-pin SOIC (S8-8), -40 to 85 degC; Manufacturer: Linear Technology; PartNumber: LTC1263IS8; Frequency(kHz): 300; Ishutdown(uA): 0.5; Isupply(mA): 0.3; Max Iout(mA): 60; Vin Max(V): 5.5; Vin Min(V): 4.75; Voutput: 12V; PackageVersion: Rev. G, 03/2012; PackageReference: S8-8; PackageDescription: 8-Pin Plastic Small Outline (Narrow .150 Inch), Body 4.9 x 3.9 mm, Pitch 1.27 mm; Supplier 1: Digi-Key; Supplier Part Number 1: LTC1263IS8-ND; RoHS: FALSE; Mounting Technology: Surface Mount; ComponentLink1Description: Manufacturer URL; ComponentLink1URL: http://www.linear.com/; ComponentLink2Description: Datasheet; ComponentLink2URL: http://cds.linear.com/docs/en/datasheet/1263f.pdf; ComponentLink3Description: Package Specification; ComponentLink3URL: http://cds.linear.com/docs/en/packaging/05081610_G_SO8.pdf
footprint LT-S8-8_N (SOIC, 8-Leads, Body 5x4mm, Pitch 1.27mm, IPC Medium Density)
footprint LT-S8-8_L (SOIC, 8-Leads, Body 5x4mm, Pitch 1.27mm, IPC High Density)
footprint LT-S8-8_M (SOIC, 8-Leads, Body 5x4mm, Pitch 1.27mm, IPC Low Density)
pins: 1 C1-, 2 C1+, 3 C2-, 4 C2+, 5 VCC (power), 6 VOUT (power), 7 GND (power) "Ground.", 8 SHDN (in)

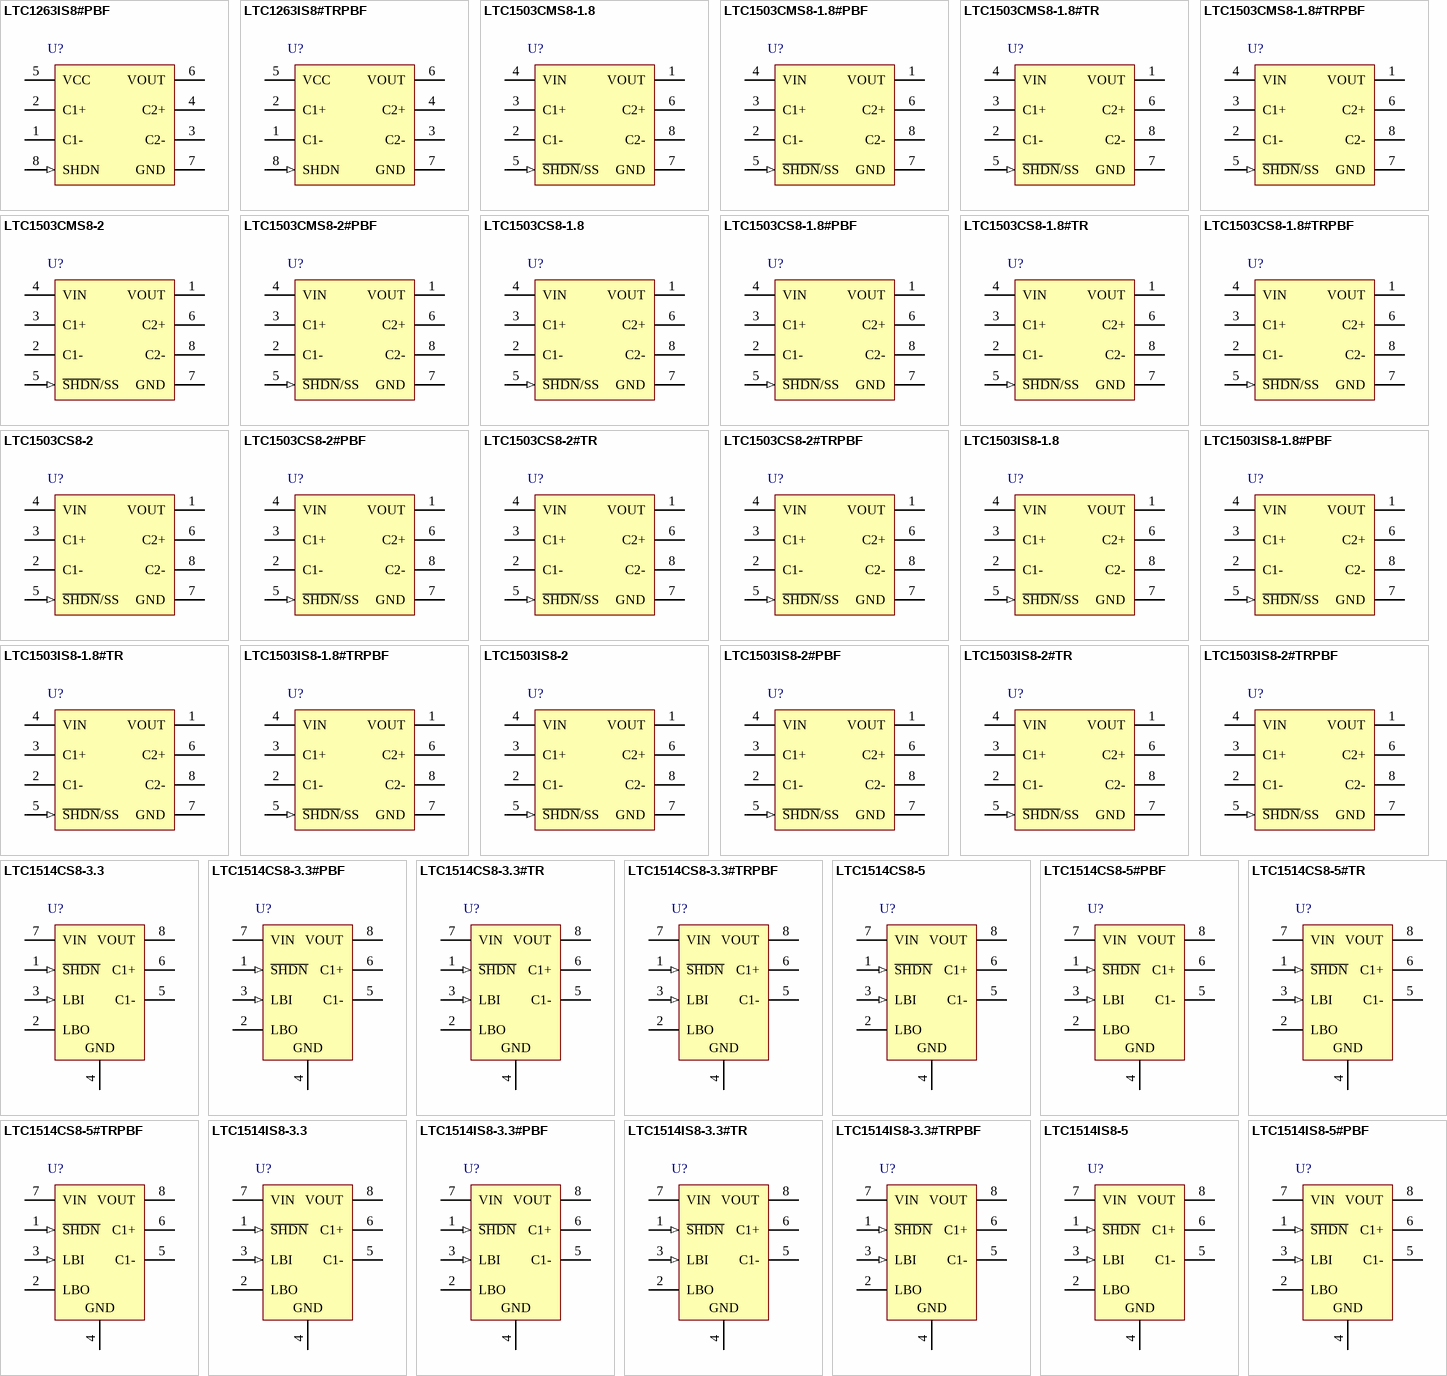
[diagram p4: symbols LTC1263IS8#PBF to LTC1514IS8-5#PBF]

## LTC1263IS8#PBF
designator U?
60 mA Flash Memory Programming Supply, 4.75 to 5.5 V Vin, 12 V Vout, 8-pin SOIC (S8-8), -40 to 85 degC, Pb-Free; Manufacturer: Linear Technology; PartNumber: LTC1263IS8#PBF; Frequency(kHz): 300; Ishutdown(uA): 0.5; Isupply(mA): 0.3; Max Iout(mA): 60; Vin Max(V): 5.5; Vin Min(V): 4.75; Voutput: 12V; PackageVersion: Rev. G, 03/2012; PackageReference: S8-8; PackageDescription: 8-Pin Plastic Small Outline (Narrow .150 Inch), Body 4.9 x 3.9 mm, Pitch 1.27 mm; Supplier 1: Digi-Key; Supplier Part Number 1: LTC1263IS8#PBF-ND; Supplier 2: Newark; Supplier Part Number 2: 55M9826; RoHS: TRUE; Mounting Technology: Surface Mount; ComponentLink1Description: Manufacturer URL; ComponentLink1URL: http://www.linear.com/; ComponentLink2Description: Datasheet; ComponentLink2URL: http://cds.linear.com/docs/en/datasheet/1263f.pdf; ComponentLink3Description: Package Specification; ComponentLink3URL: http://cds.linear.com/docs/en/packaging/05081610_G_SO8.pdf
footprint LT-S8-8_N (SOIC, 8-Leads, Body 5x4mm, Pitch 1.27mm, IPC Medium Density)
footprint LT-S8-8_L (SOIC, 8-Leads, Body 5x4mm, Pitch 1.27mm, IPC High Density)
footprint LT-S8-8_M (SOIC, 8-Leads, Body 5x4mm, Pitch 1.27mm, IPC Low Density)
pins: 1 C1-, 2 C1+, 3 C2-, 4 C2+, 5 VCC (power), 6 VOUT (power), 7 GND (power) "Ground.", 8 SHDN (in)

## LTC1263IS8#TRPBF
designator U?
60 mA Flash Memory Programming Supply, 4.75 to 5.5 V Vin, 12 V Vout, 8-pin SOIC (S8-8), -40 to 85 degC, Pb-Free, Tape and Reel; Manufacturer: Linear Technology; PartNumber: LTC1263IS8#TRPBF; Frequency(kHz): 300; Ishutdown(uA): 0.5; Isupply(mA): 0.3; Max Iout(mA): 60; Vin Max(V): 5.5; Vin Min(V): 4.75; Voutput: 12V; PackageVersion: Rev. G, 03/2012; PackageReference: S8-8; PackageDescription: 8-Pin Plastic Small Outline (Narrow .150 Inch), Body 4.9 x 3.9 mm, Pitch 1.27 mm; Supplier 1: Digi-Key; Supplier Part Number 1: LTC1263IS8#TRPBF-ND; Packing: Tape and Reel; RoHS: TRUE; Mounting Technology: Surface Mount; ComponentLink1Description: Manufacturer URL; ComponentLink1URL: http://www.linear.com/; ComponentLink2Description: Datasheet; ComponentLink2URL: http://cds.linear.com/docs/en/datasheet/1263f.pdf; ComponentLink3Description: Package Specification; ComponentLink3URL: http://cds.linear.com/docs/en/packaging/05081610_G_SO8.pdf
footprint LT-S8-8_N (SOIC, 8-Leads, Body 5x4mm, Pitch 1.27mm, IPC Medium Density)
footprint LT-S8-8_L (SOIC, 8-Leads, Body 5x4mm, Pitch 1.27mm, IPC High Density)
footprint LT-S8-8_M (SOIC, 8-Leads, Body 5x4mm, Pitch 1.27mm, IPC Low Density)
pins: 1 C1-, 2 C1+, 3 C2-, 4 C2+, 5 VCC (power), 6 VOUT (power), 7 GND (power) "Ground.", 8 SHDN (in)

## LTC1503CMS8-1.8
designator U?
High Efficiency Inductorless Step-Down DC/DC Converter, 2.4 to 6 V Vin, 1.8 V Vout, 8-pin SOP (MS8-8), -40 to 85 degC; Manufacturer: Linear Technology; PartNumber: LTC1503CMS8-1.8; Frequency(kHz): 600; Ishutdown(uA): 5; Isupply(mA): 0.025; Max Iout(mA): 100; Vin Max(V): 6; Vin Min(V): 2.4; Voutput: 1.8V; PackageVersion: Rev. G, 03/2012; PackageReference: MS8-8; PackageDescription: 8-Pin Plastic MSOP, Body 3 x 3 mm, Pitch 0.65 mm; Supplier 1: Digi-Key; Supplier Part Number 1: LTC1503CMS8-1.8-ND; RoHS: FALSE; Mounting Technology: Surface Mount; ComponentLink1Description: Manufacturer URL; ComponentLink1URL: http://www.linear.com/; ComponentLink2Description: Datasheet; ComponentLink2URL: http://cds.linear.com/docs/en/datasheet/1503f.pdf; ComponentLink3Description: Package Specification; ComponentLink3URL: http://cds.linear.com/docs/en/packaging/05081660_G_MS8.pdf
footprint LT-MS8-8_N (SOP, 8-Leads, Body 3.1x3.1mm, Pitch 0.65mm, IPC Medium Density)
footprint LT-MS8-8_L (SOP, 8-Leads, Body 3.1x3.1mm, Pitch 0.65mm, IPC High Density)
footprint LT-MS8-8_M (SOP, 8-Leads, Body 3.1x3.1mm, Pitch 0.65mm, IPC Low Density)
pins: 1 VOUT (power) "Regulated Output Voltage. VOUT is disconnected from VIN during shutdown. Bypass VOUT to ground with a >=10uF low ESR capacitor.", 2 C1- "Flying Capacitor One Negative Terminal.", 3 C1+ "Flying Capacitor One Positive Terminal.", 4 VIN (power) "Input Voltage. VIN may be between 2.4V and 6V. Bypass VIN to ground with a >=10uF low ESR capacitor.", 5 ~{SHDN}/SS (in) "Shutdown/Soft-Start Control. The pin is designed to be driven with an external open-drain output. Holding the S\H\D\N\/SS pin below 0.25V will force the part into shutdown mode. An internal pull-up current of 2uA will force (See Datasheet)", 6 C2+ "Flying Capacitor Two Positive Terminal.", 7 GND (power) "Ground. Connect to a ground plane for best performance.", 8 C2- "Flying Capacitor Two Negative Terminal."

## LTC1503CMS8-1.8#PBF
designator U?
High Efficiency Inductorless Step-Down DC/DC Converter, 2.4 to 6 V Vin, 1.8 V Vout, 8-pin SOP (MS8-8), -40 to 85 degC, Pb-Free; Manufacturer: Linear Technology; PartNumber: LTC1503CMS8-1.8#PBF; Frequency(kHz): 600; Ishutdown(uA): 5; Isupply(mA): 0.025; Max Iout(mA): 100; Vin Max(V): 6; Vin Min(V): 2.4; Voutput: 1.8V; PackageVersion: Rev. G, 03/2012; PackageReference: MS8-8; PackageDescription: 8-Pin Plastic MSOP, Body 3 x 3 mm, Pitch 0.65 mm; Supplier 1: Digi-Key; Supplier Part Number 1: LTC1503CMS8-1.8#PBF-ND; Supplier 2: Farnell; Supplier Part Number 2: 1663642; Supplier 3: Newark; Supplier Part Number 3: 56M1643; RoHS: TRUE; Mounting Technology: Surface Mount; ComponentLink1Description: Manufacturer URL; ComponentLink1URL: http://www.linear.com/; ComponentLink2Description: Datasheet; ComponentLink2URL: http://cds.linear.com/docs/en/datasheet/1503f.pdf; ComponentLink3Description: Package Specification; ComponentLink3URL: http://cds.linear.com/docs/en/packaging/05081660_G_MS8.pdf
footprint LT-MS8-8_N (SOP, 8-Leads, Body 3.1x3.1mm, Pitch 0.65mm, IPC Medium Density)
footprint LT-MS8-8_L (SOP, 8-Leads, Body 3.1x3.1mm, Pitch 0.65mm, IPC High Density)
footprint LT-MS8-8_M (SOP, 8-Leads, Body 3.1x3.1mm, Pitch 0.65mm, IPC Low Density)
pins: 1 VOUT (power) "Regulated Output Voltage. VOUT is disconnected from VIN during shutdown. Bypass VOUT to ground with a >=10uF low ESR capacitor.", 2 C1- "Flying Capacitor One Negative Terminal.", 3 C1+ "Flying Capacitor One Positive Terminal.", 4 VIN (power) "Input Voltage. VIN may be between 2.4V and 6V. Bypass VIN to ground with a >=10uF low ESR capacitor.", 5 ~{SHDN}/SS (in) "Shutdown/Soft-Start Control. The pin is designed to be driven with an external open-drain output. Holding the S\H\D\N\/SS pin below 0.25V will force the part into shutdown mode. An internal pull-up current of 2uA will force (See Datasheet)", 6 C2+ "Flying Capacitor Two Positive Terminal.", 7 GND (power) "Ground. Connect to a ground plane for best performance.", 8 C2- "Flying Capacitor Two Negative Terminal."

## LTC1503CMS8-1.8#TR
designator U?
High Efficiency Inductorless Step-Down DC/DC Converter, 2.4 to 6 V Vin, 1.8 V Vout, 8-pin SOP (MS8-8), -40 to 85 degC, Tape and Reel; Manufacturer: Linear Technology; PartNumber: LTC1503CMS8-1.8#TR; Frequency(kHz): 600; Ishutdown(uA): 5; Isupply(mA): 0.025; Max Iout(mA): 100; Vin Max(V): 6; Vin Min(V): 2.4; Voutput: 1.8V; PackageVersion: Rev. G, 03/2012; PackageReference: MS8-8; PackageDescription: 8-Pin Plastic MSOP, Body 3 x 3 mm, Pitch 0.65 mm; Supplier 1: Digi-Key; Supplier Part Number 1: LTC1503CMS8-1.8TR-ND; Packing: Tape and Reel; RoHS: FALSE; Mounting Technology: Surface Mount; ComponentLink1Description: Manufacturer URL; ComponentLink1URL: http://www.linear.com/; ComponentLink2Description: Datasheet; ComponentLink2URL: http://cds.linear.com/docs/en/datasheet/1503f.pdf; ComponentLink3Description: Package Specification; ComponentLink3URL: http://cds.linear.com/docs/en/packaging/05081660_G_MS8.pdf
footprint LT-MS8-8_N (SOP, 8-Leads, Body 3.1x3.1mm, Pitch 0.65mm, IPC Medium Density)
footprint LT-MS8-8_L (SOP, 8-Leads, Body 3.1x3.1mm, Pitch 0.65mm, IPC High Density)
footprint LT-MS8-8_M (SOP, 8-Leads, Body 3.1x3.1mm, Pitch 0.65mm, IPC Low Density)
pins: 1 VOUT (power) "Regulated Output Voltage. VOUT is disconnected from VIN during shutdown. Bypass VOUT to ground with a >=10uF low ESR capacitor.", 2 C1- "Flying Capacitor One Negative Terminal.", 3 C1+ "Flying Capacitor One Positive Terminal.", 4 VIN (power) "Input Voltage. VIN may be between 2.4V and 6V. Bypass VIN to ground with a >=10uF low ESR capacitor.", 5 ~{SHDN}/SS (in) "Shutdown/Soft-Start Control. The pin is designed to be driven with an external open-drain output. Holding the S\H\D\N\/SS pin below 0.25V will force the part into shutdown mode. An internal pull-up current of 2uA will force (See Datasheet)", 6 C2+ "Flying Capacitor Two Positive Terminal.", 7 GND (power) "Ground. Connect to a ground plane for best performance.", 8 C2- "Flying Capacitor Two Negative Terminal."

## LTC1503CMS8-1.8#TRPBF
designator U?
High Efficiency Inductorless Step-Down DC/DC Converter, 2.4 to 6 V Vin, 1.8 V Vout, 8-pin SOP (MS8-8), -40 to 85 degC, Pb-Free, Tape and Reel; Manufacturer: Linear Technology; PartNumber: LTC1503CMS8-1.8#TRPBF; Frequency(kHz): 600; Ishutdown(uA): 5; Isupply(mA): 0.025; Max Iout(mA): 100; Vin Max(V): 6; Vin Min(V): 2.4; Voutput: 1.8V; PackageVersion: Rev. G, 03/2012; PackageReference: MS8-8; PackageDescription: 8-Pin Plastic MSOP, Body 3 x 3 mm, Pitch 0.65 mm; Supplier 1: Digi-Key; Supplier Part Number 1: LTC1503CMS8-1.8#TRPBF-ND; Packing: Tape and Reel; RoHS: TRUE; Mounting Technology: Surface Mount; ComponentLink1Description: Manufacturer URL; ComponentLink1URL: http://www.linear.com/; ComponentLink2Description: Datasheet; ComponentLink2URL: http://cds.linear.com/docs/en/datasheet/1503f.pdf; ComponentLink3Description: Package Specification; ComponentLink3URL: http://cds.linear.com/docs/en/packaging/05081660_G_MS8.pdf
footprint LT-MS8-8_N (SOP, 8-Leads, Body 3.1x3.1mm, Pitch 0.65mm, IPC Medium Density)
footprint LT-MS8-8_L (SOP, 8-Leads, Body 3.1x3.1mm, Pitch 0.65mm, IPC High Density)
footprint LT-MS8-8_M (SOP, 8-Leads, Body 3.1x3.1mm, Pitch 0.65mm, IPC Low Density)
pins: 1 VOUT (power) "Regulated Output Voltage. VOUT is disconnected from VIN during shutdown. Bypass VOUT to ground with a >=10uF low ESR capacitor.", 2 C1- "Flying Capacitor One Negative Terminal.", 3 C1+ "Flying Capacitor One Positive Terminal.", 4 VIN (power) "Input Voltage. VIN may be between 2.4V and 6V. Bypass VIN to ground with a >=10uF low ESR capacitor.", 5 ~{SHDN}/SS (in) "Shutdown/Soft-Start Control. The pin is designed to be driven with an external open-drain output. Holding the S\H\D\N\/SS pin below 0.25V will force the part into shutdown mode. An internal pull-up current of 2uA will force (See Datasheet)", 6 C2+ "Flying Capacitor Two Positive Terminal.", 7 GND (power) "Ground. Connect to a ground plane for best performance.", 8 C2- "Flying Capacitor Two Negative Terminal."